# EAGLE library part JN5139-XXX-MYY (library jennic_module)
Universal fingerprint without outline
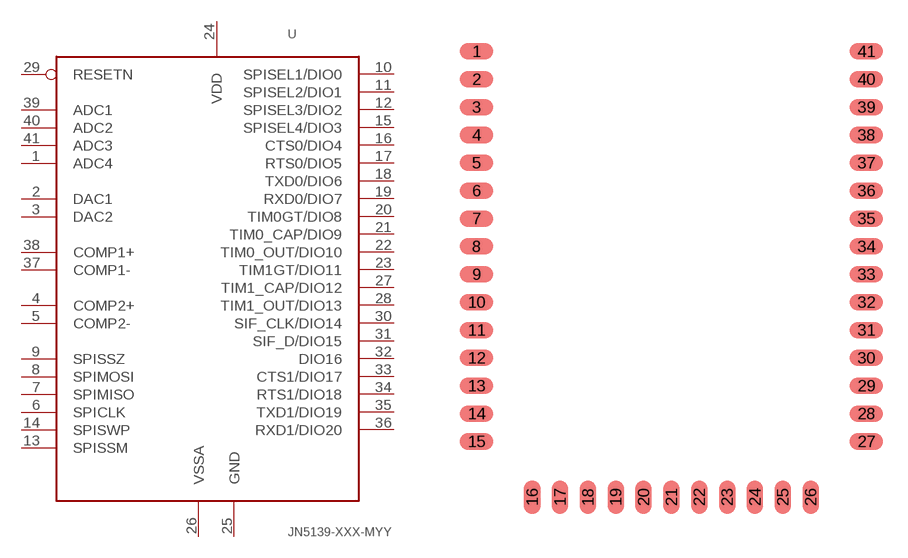
[diagram p0: symbol with the pads of JN1; footprint JN1]

Designator prefix -

## JN5139-XXX-MYY  [JN1]
1  ADC4  in
2  DAC1  out
3  DAC2  out
4  COMP2+  in
5  COMP2-  in
6  SPICLK
7  SPIMISO
8  SPIMOSI
9  SPISSZ
10  SPISEL1/DIO0
11  SPISEL2/DIO1
12  SPISEL3/DIO2
13  SPISSM
14  SPISWP
15  SPISEL4/DIO3
16  CTS0/DIO4
17  RTS0/DIO5
18  TXD0/DIO6
19  RXD0/DIO7
20  TIM0GT/DIO8
21  TIM0_CAP/DIO9
22  TIM0_OUT/DIO10
23  TIM1GT/DIO11
24  VDD  pwr
25  GND
26  VSSA
27  TIM1_CAP/DIO12
28  TIM1_OUT/DIO13
29  RESETN  in
30  SIF_CLK/DIO14
31  SIF_D/DIO15
32  DIO16
33  CTS1/DIO17
34  RTS1/DIO18
35  TXD1/DIO19
36  RXD1/DIO20
37  COMP1-  in
38  COMP1+  in
39  ADC1  in
40  ADC2  in
41  ADC3  in

## Footprint JN1 (pad centres in mm)
smd 1.524 x 0.762: 1 -21.59,5.08; 2 -21.59,3.81; 3 -21.59,2.54; 4 -21.59,1.27; 5 -21.59,0; 6 -21.59,-1.27; 7 -21.59,-2.54; 8 -21.59,-3.81; 9 -21.59,-5.08; 10 -21.59,-6.35; 11 -21.59,-7.62; 12 -21.59,-8.89; 13 -21.59,-10.16; 14 -21.59,-11.43; 15 -21.59,-12.7; 27 -3.81,-12.7; 28 -3.81,-11.43; 29 -3.81,-10.16; 30 -3.81,-8.89; 31 -3.81,-7.62; 32 -3.81,-6.35; 33 -3.81,-5.08; 34 -3.81,-3.81; 35 -3.81,-2.54; 36 -3.81,-1.27; 37 -3.81,0; 38 -3.81,1.27; 39 -3.81,2.54; 40 -3.81,3.81; 41 -3.81,5.08
smd 0.762 x 1.524: 16 -19.05,-15.24; 17 -17.78,-15.24; 18 -16.51,-15.24; 19 -15.24,-15.24; 20 -13.97,-15.24; 21 -12.7,-15.24; 22 -11.43,-15.24; 23 -10.16,-15.24; 24 -8.89,-15.24; 25 -7.62,-15.24; 26 -6.35,-15.24